# Altium schematic symbol library FQD2P40TM.SchLib: 1 symbol
Pins are listed as number, name and electrical type; pins without a type are passive.

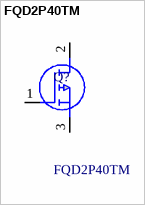
[diagram p0: symbol FQD2P40TM]

## FQD2P40TM
designator Q?
MOSFET QF -400V 6.5OHM DPAK; Manufacturer_Name: onsemi; Manufacturer_Part_Number: FQD2P40TM; Mouser Part Number: 512-FQD2P40TM; Mouser Price/Stock: https://www.mouser.co.uk/ProductDetail/onsemi-Fairchild/FQD2P40TM?qs=wg6chLqwgwqz4IFYQILlYg%3D%3D; Arrow Part Number: FQD2P40TM; Arrow Price/Stock: https://www.arrow.com/en/products/fqd2p40tm/on-semiconductor?region=nac; Mouser Testing Part Number: *; Mouser Testing Price/Stock: *; Datasheet Link: https://www.onsemi.com/pub/Collateral/FQD2P40-D.pdf
footprint FDD8874
pins: 1 G, 2 D, 3 S